# EAGLE library part PROG_PORT_AVR (library machine_science)
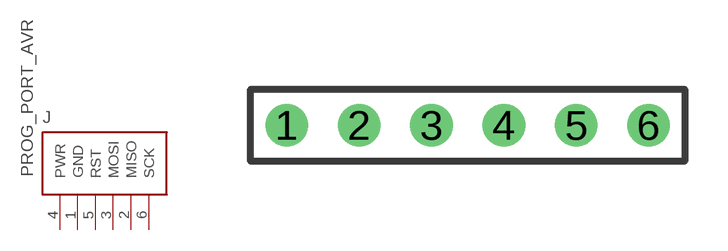
[diagram p3: symbol with the pads of PORT_1X6; footprint PORT_1X6]

Designator prefix J

## PROG_PORT_AVR  [PORT_1X6]
1  GND  pwr
2  MISO
3  MOSI
4  PWR  pwr
5  RST
6  SCK  pwr

## Footprint PORT_1X6 (pad centres in mm)
drill 0.991 round: 1 -5.08,0; 2 -2.54,0; 3 0,0; 4 2.54,0; 5 5.08,0; 6 7.62,0